# Altium footprint library HV9006_MEASUREBOARD.PCBLIB: 292 footprints (part 12 of 19)
Each footprint in its own frame and in the unit in brackets; x right, y up, seen from the top. Pads: shape width x height; smd on the part's side, far side on the other; paste and mask are expansions set on the pad; w line width, h text height; cw(c..) or ccw(c..) is an arc to the next point about the centre after c.
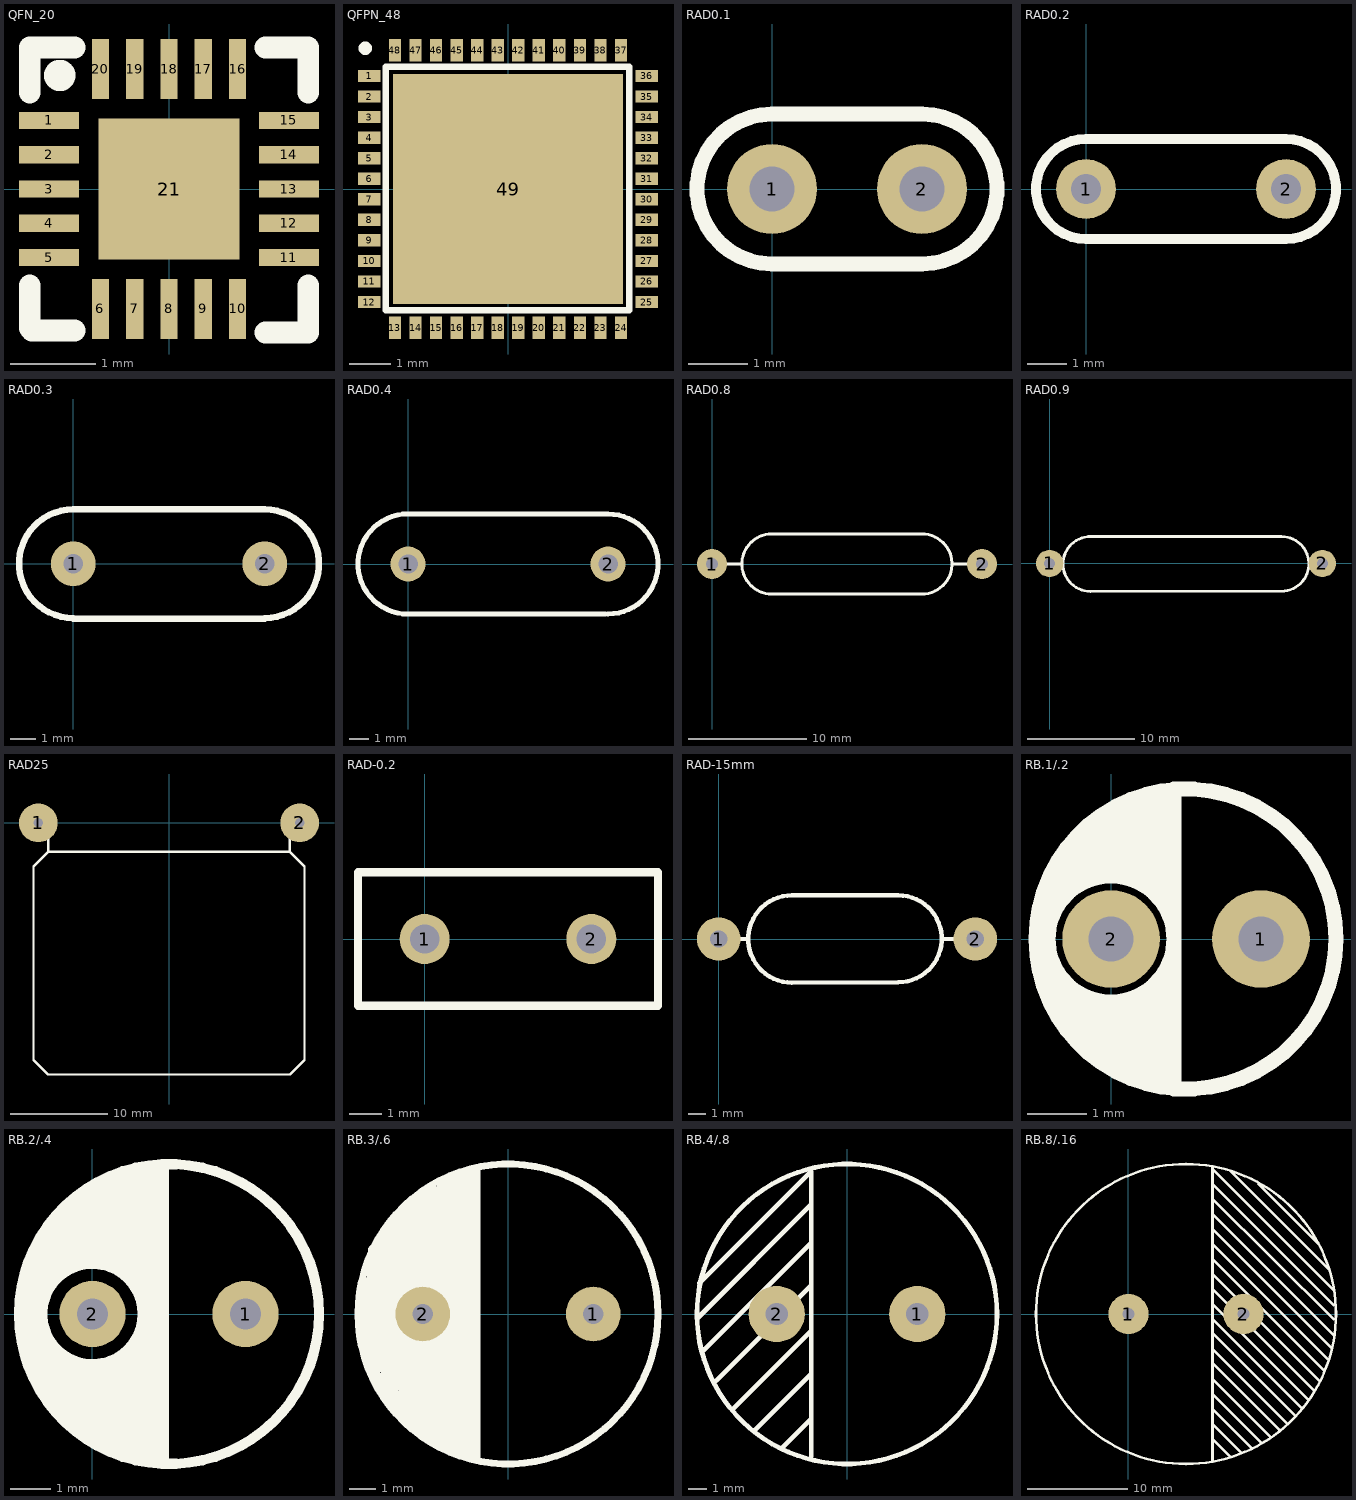
[diagram p11: the footprints below, top view; thin cyan lines are the x and y axes]

## QFN_20 [mm]
pads (21):
  rect 0.7x0.2 smd: 1(-1.4,0.8) 2(-1.4,0.4) 3(-1.4,0) 4(-1.4,-0.4) 5(-1.4,-0.8) 11(1.4,-0.8) 12(1.4,-0.4) 13(1.4,0) 14(1.4,0.4) 15(1.4,0.8)
  rect 0.2x0.7 smd: 6(-0.8,-1.4) 7(-0.4,-1.4) 8(0,-1.4) 9(0.4,-1.4) 10(0.8,-1.4) 16(0.8,1.4) 17(0.4,1.4) 18(0,1.4) 19(-0.4,1.4) 20(-0.8,1.4)
  rect 1.65x1.65 smd: 21(0,0)
Top Overlay:
  circle w0.254: c-1.275,1.325 r0.056
  lines w0.254: -1.625,-1.625 -1.625,-1.125 ; -1.625,1.125 -1.625,1.65 -1.1,1.65 ; -1.6,-1.65 -1.1,-1.65 ; 1.125,-1.675 1.625,-1.675 1.625,-1.125 ; 1.125,1.65 1.625,1.65 1.625,1.125
3D body: height 0.8, standoff 0, extent -1.5,-1.5 1.5,1.5

## QFPN_48 [mm]
pads (49):
  rect 0.55x0.3 smd: 1(-3.375,2.75) 2(-3.375,2.25) 3(-3.375,1.75) 4(-3.375,1.25) 5(-3.375,0.75) 6(-3.375,0.25) 7(-3.375,-0.25) 8(-3.375,-0.75) 9(-3.375,-1.25) 10(-3.375,-1.75) 11(-3.375,-2.25) 12(-3.375,-2.75) 25(3.375,-2.75) 26(3.375,-2.25) 27(3.375,-1.75) 28(3.375,-1.25) 29(3.375,-0.75) 30(3.375,-0.25) 31(3.375,0.25) 32(3.375,0.75) 33(3.375,1.25) 34(3.375,1.75) 35(3.375,2.25) 36(3.375,2.75)
  rect 0.3x0.55 smd: 13(-2.75,-3.375) 14(-2.25,-3.375) 15(-1.75,-3.375) 16(-1.25,-3.375) 17(-0.75,-3.375) 18(-0.25,-3.375) 19(0.25,-3.375) 20(0.75,-3.375) 21(1.25,-3.375) 22(1.75,-3.375) 23(2.25,-3.375) 24(2.75,-3.375) 37(2.75,3.375) 38(2.25,3.375) 39(1.75,3.375) 40(1.25,3.375) 41(0.75,3.375) 42(0.25,3.375) 43(-0.25,3.375) 44(-0.75,3.375) 45(-1.25,3.375) 46(-1.75,3.375) 47(-2.25,3.375) 48(-2.75,3.375)
  rect 5.6x5.6 smd: 49(0,0)
Top Overlay:
  circle w0.254: c-3.475,3.425 r0.035
  lines w0.152: -2.975,-2.95 -2.975,2.975 2.95,2.975 2.95,-2.95 -2.975,-2.95
3D body: height 1.6, standoff 0, extent -3,-3 3,3
3D body: height 0.7, standoff 0.6, extent -3.225,2.65 -3,2.85
3D body: height 0.7, standoff 0.6, extent -3.25,2.15 -3.025,2.35
3D body: height 0.7, standoff 0.6, extent -3.225,1.625 -3,1.825
3D body: height 0.7, standoff 0.6, extent -3.225,1.15 -3,1.35
3D body: height 0.7, standoff 0.6, extent -3.25,0.675 -3.025,0.875
3D body: height 0.7, standoff 0.6, extent -3.25,0.15 -3.025,0.35
3D body: height 0.7, standoff 0.6, extent -3.237,-0.35 -3.012,-0.15
3D body: height 0.7, standoff 0.6, extent -3.237,-0.85 -3.012,-0.65
3D body: height 0.7, standoff 0.6, extent -3.237,-1.35 -3.012,-1.15
3D body: height 0.7, standoff 0.6, extent -3.225,-1.85 -3,-1.65
3D body: height 0.7, standoff 0.6, extent -3.225,-2.35 -3,-2.15
3D body: height 0.7, standoff 0.6, extent -3.225,-2.85 -3,-2.65
3D body: height 0.7, standoff 0, extent -3.275,2.15 -3.225,2.35
3D body: height 0.7, standoff 0, extent -3.25,1.625 -3.2,1.825
3D body: height 0.7, standoff 0, extent -3.25,1.15 -3.2,1.35
3D body: height 0.7, standoff 0, extent -3.275,0.675 -3.225,0.875
3D body: height 0.7, standoff 0, extent -3.275,0.15 -3.225,0.35
3D body: height 0.7, standoff 0, extent -3.262,-0.35 -3.212,-0.15
3D body: height 0.7, standoff 0, extent -3.262,-0.85 -3.212,-0.65
3D body: height 0.7, standoff 0, extent -3.262,-1.35 -3.212,-1.15
3D body: height 0.7, standoff 0, extent -3.25,-1.85 -3.2,-1.65
3D body: height 0.7, standoff 0, extent -3.25,-2.35 -3.2,-2.15
3D body: height 0.7, standoff 0, extent -3.25,-2.85 -3.2,-2.65
3D body: height 0.7, standoff 0, extent -3.25,2.65 -3.2,2.85
3D body: height 0.7, standoff 0.6, extent 3,2.65 3.225,2.85
3D body: height 0.7, standoff 0.6, extent 3,2.15 3.225,2.35
3D body: height 0.7, standoff 0.6, extent 3,1.65 3.225,1.85
3D body: height 0.7, standoff 0.6, extent 3,1.15 3.225,1.35
3D body: height 0.7, standoff 0.6, extent 3,0.65 3.225,0.85
3D body: height 0.7, standoff 0.6, extent 3,0.15 3.225,0.35
3D body: height 0.7, standoff 0.6, extent 2.988,-0.35 3.213,-0.15
3D body: height 0.7, standoff 0.6, extent 3,-0.85 3.225,-0.65
3D body: height 0.7, standoff 0.6, extent 3,-1.35 3.225,-1.15
3D body: height 0.7, standoff 0.6, extent 3,-1.85 3.225,-1.65
3D body: height 0.7, standoff 0.6, extent 3,-2.35 3.225,-2.15
3D body: height 0.7, standoff 0.6, extent 3.025,-2.85 3.25,-2.65
3D body: height 0.7, standoff 0, extent 3.2,2.65 3.25,2.85
3D body: height 0.7, standoff 0, extent 3.2,2.15 3.25,2.35
3D body: height 0.7, standoff 0, extent 3.2,1.65 3.25,1.85
3D body: height 0.7, standoff 0, extent 3.2,1.15 3.25,1.35
3D body: height 0.7, standoff 0, extent 3.2,0.65 3.25,0.85
3D body: height 0.7, standoff 0, extent 3.2,0.15 3.25,0.35
3D body: height 0.7, standoff 0, extent 3.188,-0.35 3.238,-0.15
3D body: height 0.7, standoff 0, extent 3.2,-0.85 3.25,-0.65
3D body: height 0.7, standoff 0, extent 3.2,-1.35 3.25,-1.15
3D body: height 0.7, standoff 0, extent 3.2,-1.85 3.25,-1.65
3D body: height 0.7, standoff 0, extent 3.2,-2.35 3.25,-2.15
3D body: height 0.7, standoff 0, extent 3.225,-2.85 3.275,-2.65
3D body: height 0.1, standoff 0, extent 3.225,2.65 3.4,2.85
3D body: height 0.1, standoff 0, extent 3.225,2.15 3.4,2.35
3D body: height 0.1, standoff 0, extent 3.225,1.65 3.4,1.85
3D body: height 0.1, standoff 0, extent 3.225,1.15 3.4,1.35
3D body: height 0.1, standoff 0, extent 3.225,0.65 3.4,0.85
3D body: height 0.1, standoff 0, extent 3.225,0.15 3.4,0.35
3D body: height 0.1, standoff 0, extent 3.213,-0.35 3.388,-0.15
3D body: height 0.1, standoff 0, extent 3.225,-0.85 3.4,-0.65
3D body: height 0.1, standoff 0, extent 3.225,-1.35 3.4,-1.15
3D body: height 0.1, standoff 0, extent 3.225,-1.85 3.4,-1.65
3D body: height 0.1, standoff 0, extent 3.225,-2.35 3.4,-2.15
3D body: height 0.1, standoff 0, extent 3.25,-2.85 3.425,-2.65
3D body: height 0.1, standoff 0, extent -3.4,2.65 -3.225,2.85
3D body: height 0.1, standoff 0, extent -3.425,2.15 -3.25,2.35
3D body: height 0.1, standoff 0, extent -3.4,1.625 -3.225,1.825
3D body: height 0.1, standoff 0, extent -3.4,1.15 -3.225,1.35
3D body: height 0.1, standoff 0, extent -3.425,0.675 -3.25,0.875
3D body: height 0.1, standoff 0, extent -3.425,0.15 -3.25,0.35
3D body: height 0.1, standoff 0, extent -3.412,-0.35 -3.237,-0.15
3D body: height 0.1, standoff 0, extent -3.412,-0.85 -3.237,-0.65
3D body: height 0.1, standoff 0, extent -3.412,-1.35 -3.237,-1.15
3D body: height 0.1, standoff 0, extent -3.4,-1.85 -3.225,-1.65
3D body: height 0.1, standoff 0, extent -3.4,-2.35 -3.225,-2.15
3D body: height 0.1, standoff 0, extent -3.4,-2.85 -3.225,-2.65
3D body: height 0.7, standoff 0.6, extent -2.85,-3.2 -2.65,-2.975
3D body: height 0.7, standoff 0.6, extent -2.35,-3.2 -2.15,-2.975
3D body: height 0.7, standoff 0.6, extent -1.85,-3.2 -1.65,-2.975
3D body: height 0.7, standoff 0.6, extent -1.35,-3.2 -1.15,-2.975
3D body: height 0.7, standoff 0.6, extent -0.85,-3.2 -0.65,-2.975
3D body: height 0.7, standoff 0.6, extent -0.35,-3.2 -0.15,-2.975
3D body: height 0.7, standoff 0.6, extent 0.15,-3.2 0.35,-2.975
3D body: height 0.7, standoff 0.6, extent 0.675,-3.2 0.875,-2.975
3D body: height 0.7, standoff 0.6, extent 1.15,-3.2 1.35,-2.975
3D body: height 0.7, standoff 0.6, extent 1.65,-3.2 1.85,-2.975
3D body: height 0.7, standoff 0.6, extent 2.15,-3.2 2.35,-2.975
3D body: height 0.7, standoff 0.6, extent 2.65,-3.2 2.85,-2.975
3D body: height 0.7, standoff 0.6, extent 2.65,3.025 2.85,3.25
3D body: height 0.7, standoff 0.6, extent 2.15,3.025 2.35,3.25
3D body: height 0.7, standoff 0.6, extent 1.65,3.025 1.85,3.25
3D body: height 0.7, standoff 0.6, extent 1.15,3.025 1.35,3.25
3D body: height 0.7, standoff 0.6, extent 0.65,3.025 0.85,3.25
3D body: height 0.7, standoff 0.6, extent 0.15,3.025 0.35,3.25
3D body: height 0.7, standoff 0.6, extent -0.35,3.025 -0.15,3.25
3D body: height 0.7, standoff 0.6, extent -0.85,3.025 -0.65,3.25
3D body: height 0.7, standoff 0.6, extent -1.35,3.025 -1.15,3.25
3D body: height 0.7, standoff 0.6, extent -1.825,3.025 -1.625,3.25
3D body: height 0.7, standoff 0.6, extent -2.35,3.025 -2.15,3.25
3D body: height 0.7, standoff 0.6, extent -2.825,3.025 -2.625,3.25
3D body: height 0.7, standoff 0, extent -2.85,-3.225 -2.65,-3.175
3D body: height 0.7, standoff 0, extent -2.35,-3.225 -2.15,-3.175
3D body: height 0.7, standoff 0, extent -1.85,-3.225 -1.65,-3.175
3D body: height 0.7, standoff 0, extent -0.85,-3.225 -0.65,-3.175
3D body: height 0.7, standoff 0, extent -1.35,-3.225 -1.15,-3.175
3D body: height 0.7, standoff 0, extent -0.35,-3.225 -0.15,-3.175
3D body: height 0.7, standoff 0, extent 0.15,-3.225 0.35,-3.175
3D body: height 0.7, standoff 0, extent 0.675,-3.225 0.875,-3.175
3D body: height 0.7, standoff 0, extent 1.15,-3.225 1.35,-3.175
3D body: height 0.7, standoff 0, extent 1.65,-3.225 1.85,-3.175
3D body: height 0.7, standoff 0, extent 2.15,-3.225 2.35,-3.175
3D body: height 0.7, standoff 0, extent 2.65,-3.225 2.85,-3.175
3D body: height 0.7, standoff 0, extent 2.65,3.225 2.85,3.275
3D body: height 0.7, standoff 0, extent 2.15,3.225 2.35,3.275
3D body: height 0.7, standoff 0, extent 1.65,3.225 1.85,3.275
3D body: height 0.7, standoff 0, extent 1.15,3.225 1.35,3.275
3D body: height 0.7, standoff 0, extent 0.65,3.225 0.85,3.275
3D body: height 0.7, standoff 0, extent 0.15,3.225 0.35,3.275
3D body: height 0.7, standoff 0, extent -0.35,3.225 -0.15,3.275
3D body: height 0.7, standoff 0, extent -0.85,3.225 -0.65,3.275
3D body: height 0.7, standoff 0, extent -1.35,3.225 -1.15,3.275
3D body: height 0.7, standoff 0, extent -1.825,3.225 -1.625,3.275
3D body: height 0.7, standoff 0, extent -2.825,3.225 -2.625,3.275
3D body: height 0.7, standoff 0, extent -2.35,3.225 -2.15,3.275
3D body: height 0.1, standoff 0, extent -2.825,3.25 -2.625,3.425
3D body: height 0.1, standoff 0, extent -2.35,3.25 -2.15,3.425
3D body: height 0.1, standoff 0, extent -1.825,3.25 -1.625,3.425
3D body: height 0.1, standoff 0, extent -1.35,3.25 -1.15,3.425
3D body: height 0.1, standoff 0, extent -0.85,3.25 -0.65,3.425
3D body: height 0.1, standoff 0, extent -0.35,3.25 -0.15,3.425
3D body: height 0.1, standoff 0, extent 0.15,3.25 0.35,3.425
3D body: height 0.1, standoff 0, extent 0.65,3.25 0.85,3.425
3D body: height 0.1, standoff 0, extent 1.15,3.25 1.35,3.425
3D body: height 0.1, standoff 0, extent 1.65,3.25 1.85,3.425
3D body: height 0.1, standoff 0, extent 2.15,3.25 2.35,3.425
3D body: height 0.1, standoff 0, extent 2.65,3.25 2.85,3.425
3D body: height 0.1, standoff 0, extent 2.65,-3.375 2.85,-3.2
3D body: height 0.1, standoff 0, extent 2.15,-3.375 2.35,-3.2
3D body: height 0.1, standoff 0, extent 1.65,-3.375 1.85,-3.2
3D body: height 0.1, standoff 0, extent 1.15,-3.375 1.35,-3.2
3D body: height 0.1, standoff 0, extent 0.675,-3.375 0.875,-3.2
3D body: height 0.1, standoff 0, extent 0.15,-3.375 0.35,-3.2
3D body: height 0.1, standoff 0, extent -0.35,-3.375 -0.15,-3.2
3D body: height 0.1, standoff 0, extent -0.85,-3.375 -0.65,-3.2
3D body: height 0.1, standoff 0, extent -1.85,-3.375 -1.65,-3.2
3D body: height 0.1, standoff 0, extent -1.35,-3.375 -1.15,-3.2
3D body: height 0.1, standoff 0, extent -2.35,-3.375 -2.15,-3.2
3D body: height 0.1, standoff 0, extent -2.85,-3.375 -2.65,-3.2

## RAD0.1 [mil]
pads (2):
  round 60 hole 30: 1(0,0) 2(100,0)
Top Overlay:
  lines w10: 0,-50 cw(c0,0) 0,50 100,50 cw(c100,0) 100,-50 0,-50

## RAD0.2 [mil]
pads (2):
  round 60 hole 30: 1(0,0) 2(200,0)
Top Overlay:
  lines w10: 0,-50 cw(c0,0) 0,50 200,50 cw(c200,0) 200,-50 0,-50

## RAD0.3 [mil]
pads (2):
  round 70 hole 30: 1(0,0) 2(300,0)
Top Overlay:
  lines w10: 0,-86 300,-86 ; 0,-85.15 cw(c0,0) 0,85.15 300,85.15 cw(c300,0) 300,-85.15

## RAD0.4 [mil]
pads (2):
  round 70 hole 39: 1(0,0) 2(400,0)
Top Overlay:
  lines w10: 0,-100.15 cw(c0,0) 0,100.15 400,100 cw(c400,0) 400,-100 ; 0,-100 395,-100

## RAD0.8 [mil]
pads (2):
  round 100 hole 40: 1(0,0) 2(900,0)
Top Overlay:
  lines w10: 0,0 100,0 ; 200,-100.5 cw(c200,0) 200,100.5 699.5,100.5 ; 200.5,-100 700,-100 ccw(c700,0) 700,100 ; 800,0 900,0

## RAD0.9 [mil]
pads (2):
  round 100 hole 40: 1(0,0) 2(1000,0)
Top Overlay:
  lines w10: 141.73,-102.36 858.27,-102.36 ; 141.73,98.43 850.39,98.43 cw(c850.39,-1.57) 850.39,-101.57 ; 149.61,-102.57 cw(c149.61,-2.07) 149.61,98.43

## RAD25 [mm]
pads (2):
  round 4 hole 1: 1(-13.5,0) 2(13.5,0)
Top Overlay:
  lines w0.254: -13.5,0 -12.5,-1 -12.5,-3 ; 13.5,0 12.5,-1 12.5,-3 ; -12.5,-3 12.5,-3 ; -12.5,-3 -14,-4.5 -14,-24.5 -12.5,-26 12.5,-26 14,-24.5 14,-4.5 12.5,-3 ; 12.5,-3 12.5,-3

## RAD-0.2 [mil]
pads (2):
  round 60 hole 35: 1(0,0) 2(200,0)
Top Overlay:
  lines w10: -80,-80 280,-80 280,80 -80,80 -80,-80

## RAD-15mm [mil]
pads (2):
  round 100 hole 40: 1(0,0) 2(590.55,0)
Top Overlay:
  lines w10: 0,0 67.91,0 ; 168.31,-100.5 cw(c168.31,0) 168.31,100.5 413.39,100.5 cw(c413.39,0.5) 413.39,-99.5 ; 168.31,-100 413.39,-100 ; 514.76,0 590.55,0

## RB.1/.2 [mil]
pads (2):
  round 65 hole 30: 1(100,0) 2(0,0)
Top Overlay:
  circle w10: c50,0 r100
  circle w10: c0,0 r42
  lines w10: 10,-90 10,-85 -30,-45 -35,-45 0,-80 5,-80 30,-55 20,-55 10,-45 10,-50 30,-70 30,-65 25,-60 10,-60 30,-40 ; 15,55 29.04,69.04 29.04,79.04 30,78.07 30,40 ; 30,-30 30,-90 ; 40,-20 40,-90 ; 42,-100 42,100 ; -45,-15 30,-90 ; -45,-15 -45,-25 20,-90 30,-90 ; -45,-15 -45,-5 -45,20 25,90 40,90 -2.68,47.32 -17.68,47.32 -15.37,45 25,45 30,40 ; 30,-90 40,-90 ; 30,-90 40,-90 ; 30,-90 30,-80 -5,-45 30,-45 30,-40 ; 30,-40 25,-45 20,-45 25,-40 30,-40 ; 30,40 30,35 35,30 ; 30,40 30,50 25,55 -10,55 -13.55,51.45 -3.56,51.45 35,90 ; 35,30 25,40 25,75 15,85 10,85 -40,35 -25,50 -25,60 -10,75 0,75 15,90 35,90 ; 35,30 35,90

## RB.2/.4 [mil]
pads (2):
  round 65 hole 30: 1(150,0) 2(0,0)
Top Overlay:
  circle w10: c0,0 r49.24
  circle w10: c75,0 r147.05
  rectangle: 30,-140 50,-120
  rectangle: -15,-115 5,-95
  rectangle: 35,-60 50,-35
  rectangle: 35,35 50,55
  rectangle: 30,120 55,135
  rectangle: -5,100 10,120
  rectangle: -50,40 -30,85
  rectangle: -50,-80 -35,-40
  rectangle: -65,-55 -45,55
  rectangle: 10,105 50,130
  rectangle: -30,45 45,110
  rectangle: 0,-130 55,-80
  rectangle: -35,-100 55,-50
  rectangle: 45,-145 70,145
  lines w10: -60,50 -35,75 -35,80 20,135 55,135 ; -35,-85 -15,-105 -15,-95 ; -5,120 -5,115 -50,70 -50,25 -40,35 -40,50 -35,45 -30,45 -20,55 25,55 55,25 55,-25 25,-55 ; 5,-55 25,-55 ; 25,-50 25,-55 ; 70,-145 70,145 ; -15,-95 -40.96,-69.04 -40.96,-84.04 -5,-120 10,-120 20,-130 30,-130 30,-140 -15,-95 ; -15,-95 -55,-55 -55,-50 -40,-65 -15,-65 -55,-25 -55,10 -65,20 -65,-20 -30,-55 -30,-60 -55,-35 -55,-20 -20,-55 25,-55

## RB.3/.6 [mil]
pads (2):
  round 80 hole 30: 1(125,0) 2(-125,0)
Top Overlay:
  circle w10: c0,0 r220
  rectangle: -65,-210 -45,-200
  rectangle: -140,-175 -100,-145
  rectangle: -186.41,-112.53 -147.47,-73.59
  rectangle: -205,-85 -155,85
  rectangle: -160,-155 -105,155
  rectangle: -110,-190 -45,185
  lines w10: -210,-60 -210,45 -55,200 -45,200 -165,80 -200,80 ; -205,60 -60,205 -75,205 -200,80 ; -200,-70 -200,-90 -90,-200 -60,-200 -195,-65 -195,-85 -85,-195 -45,-195 ; -186.41,-112.53 -110,-188.94 -110,-190 ; -180,125 -175,125 -130,170 ; -110,185 -200,95 -200,80 ; -90,195 -190,95 -190,80 -60,210 -45,210 ; -65.45,199.55 -45,179.11 -45,145 ; -45,-215 -45,210 ; -200,80 -175,80 -45,210

## RB.4/.8 [mm]
pads (2):
  round 3 hole 1.2: 1(3.75,0) 2(-3.75,0)
Top Overlay:
  circle w0.254: c0,0 r8
  lines w0.254: -8.001,-0.254 -1.905,5.842 ; -7.874,1.651 -1.905,7.62 -1.905,-7.62 ; -7.747,-2.032 -1.905,3.81 ; -6.985,-3.556 -1.905,1.524 ; -6.096,-5.08 -1.905,-0.889 ; -4.953,-6.223 -1.905,-3.175 ; -3.429,-7.112 -1.905,-5.588

## RB.8/.16 [mm]
pads (2):
  round 4 hole 1.2: 1(0,0) 2(11.5,0)
Top Overlay:
  circle w0.254: c5.75,0 r15
  lines w0.254: 8.4,-14.7 8.4,14.7 ; 8.4,-12.5 10.2,-14.3 ; 8.4,-11 11.3,-13.9 ; 8.4,-9.5 12.3,-13.4 ; 8.4,-8 13.3,-12.9 ; 8.4,-6.5 14.2,-12.3 ; 8.4,-3.5 15.9,-11 ; 8.4,-0.5 17.3,-9.4 ; 8.4,1 18,-8.6 ; 8.4,2.5 18.6,-7.7 ; 8.4,4 19.1,-6.7 ; 8.4,5.5 19.6,-5.7 ; 8.4,7 20,-4.6 ; 8.4,8.5 20.3,-3.4 ; 8.4,10 20.5,-2.1 ; 8.4,11.5 20.5,-0.5 ; 8.4,13 20.5,0.9 ; 8.4,14.5 20.5,2.4 ; 8.5,-5 15.1,-11.6 ; 8.5,-2 16.7,-10.2 ; 10.2,14.3 20,4.5 ; 13,13 19,7